# Altium footprint library BTI7.PcbLib: 1 footprints
Each footprint in its own frame and in the unit in brackets; x right, y up, seen from the top. Pads: shape width x height; smd on the part's side, far side on the other; paste and mask are expansions set on the pad; w line width, h text height; cw(c..) or ccw(c..) is an arc to the next point about the centre after c.
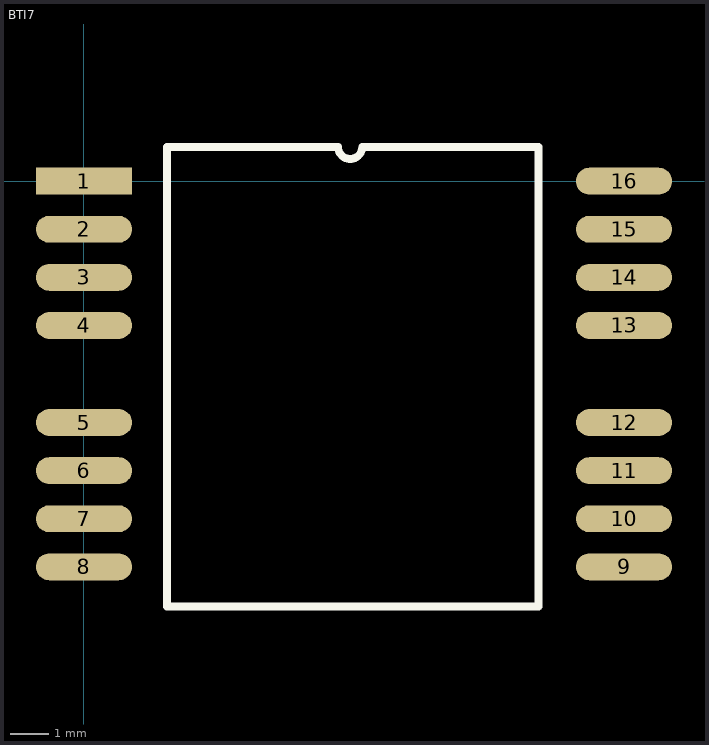
[diagram p0: the footprint, top view; thin cyan lines are the x and y axes]

## BTI7 [mm]
pads (16):
  rect 2.5x0.7 smd: 1(0,0)
  oval 2.5x0.7 smd: 2(0,-1.25) 3(0,-2.5) 4(0,-3.75) 5(0,-6.27) 6(0,-7.52) 7(0,-8.77) 8(0,-10.02) 9(14.032,-10.02) 10(14.032,-8.77) 11(14.032,-7.52) 12(14.032,-6.27) 13(14.032,-3.75) 14(14.032,-2.5) 15(14.032,-1.25) 16(14.032,0)
Top Overlay:
  lines w0.2: 7.229,0.889 cw(c6.916,0.889) 6.604,0.889 2.159,0.889 2.159,-11.049 11.811,-11.049 11.811,0.889 7.239,0.889
3D body: height 2.5, standoff 0, extent 2.159,-11.049 11.811,0.889